# EAGLE library part LTC2602_16BIT_DUALDAC (library jonsowman)
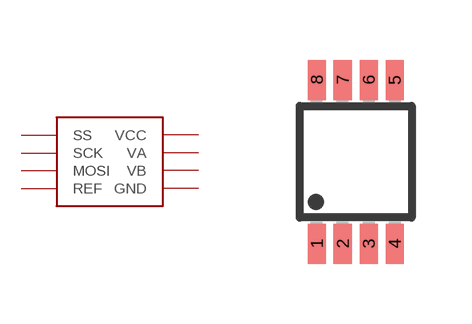
[diagram p6: symbol with the pads of MSOP8; footprint MSOP8]

Designator prefix -

## LTC2602_16BIT_DUALDAC  [MSOP8]
1  SS
2  SCK
3  MOSI
4  REF
5  VB
6  VCC
7  GND
8  VA

## Footprint MSOP8 (pad centres in mm)
Micro Small Outline Package Grid .65mm
smd 0.45 x 1: 1 -0.975,-2.05; 2 -0.325,-2.05; 3 0.325,-2.05; 4 0.975,-2.05; 5 0.975,2.05; 6 0.325,2.05; 7 -0.325,2.05; 8 -0.975,2.05